# Altium schematic symbol library Connector.SchLib: 164 symbols (part 1 of 2)
Pins are listed as number, name and electrical type; pins without a type are passive.

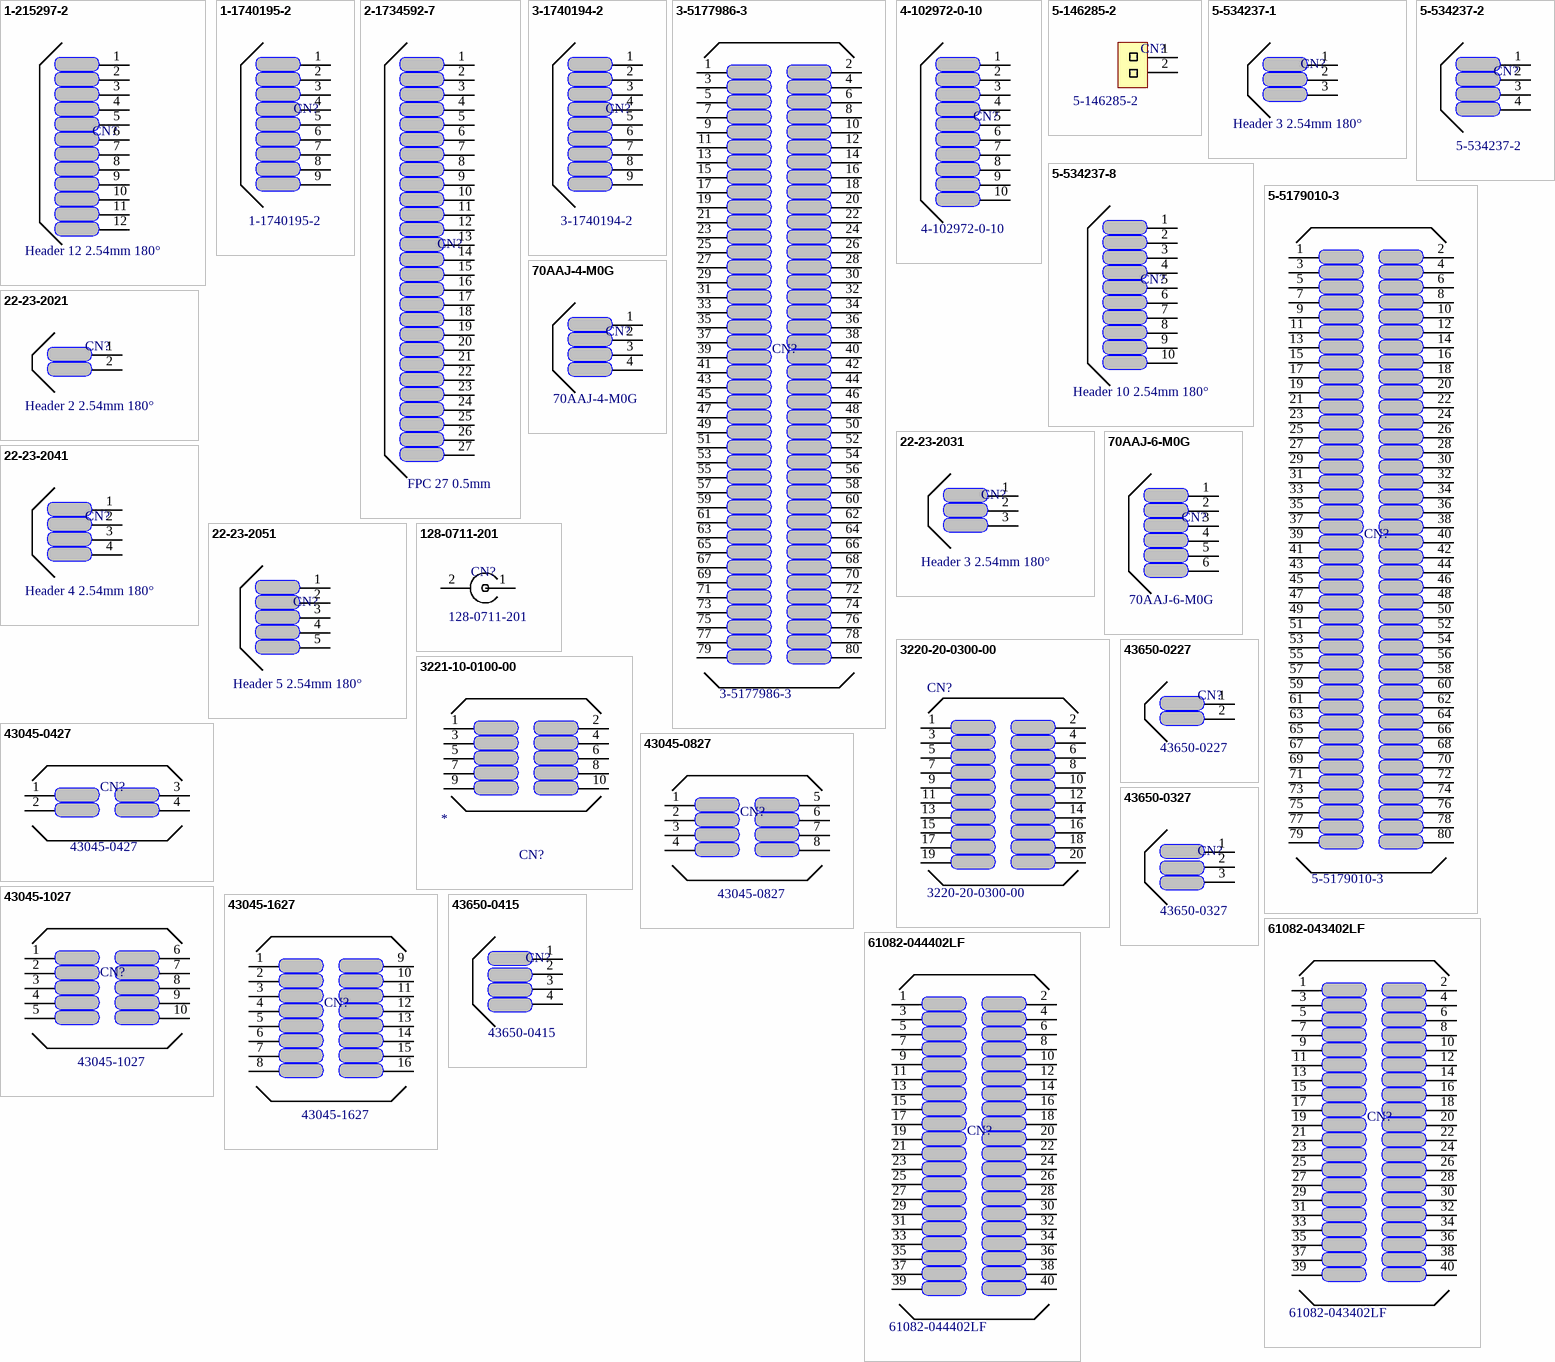
[diagram p0: symbols 1-215297-2 to 61082-044402LF]

## 1-215297-2
designator CN?  value Header 12 2.54mm 180°  (hidden comment: 1-215297-2)
CONN RCPT 12POS .100 VERT T/H; Manufacturer: TE Connectivity; N of Positions: 12; Pitch: 2.54mm; Mount Type: PTH; Supplier 1: Farnell; Supplier 2: Newark; Supplier 3: Digi-Key; Supplier 4: Mouser; Supplier 5: Arrow; Supplier Part Number 1: 3419137; Supplier Part Number 2: 98K4864; Supplier Part Number 3: 1-215297-2-ND; Supplier Part Number 4: 571-1-215297-2; Supplier Part Number 5: 4802830
footprint HEADER 12 2.54mm 180 GRAUS
pins: 1, 2, 3, 4, 5, 6, 7, 8, 9, 10, 11, 12

## 1-1740195-2
designator CN?
CONN DSUB PLUG 9POS SMD R/A SLDR; Manufacturer: TE Connectivity; N of Positions: 9; Pitch: -; Mount Type: SMD; Supplier 1: Newark; Supplier Part Number 1: 16R9549; Supplier 2: Digi-Key; Supplier Part Number 2: A109023CT-ND; Supplier 3: Avnet; Supplier Part Number 3: 1-1740195-2; Value: 1-1740195-2
footprint DB9 HOR SMD MALE 1-1740195-2
pins: 1, 2, 3, 4, 5, 6, 7, 8, 9

## 2-1734592-7
designator CN?  value FPC 27 0.5mm  (hidden comment: 2-1734592-7)
CONN FPC 27POS .5MM RT ANG SMD; Manufacturer: TE Connectivity; N of Positions: 27; Pitch: 0.5mm; Mount Type: SMD; Supplier 1: Digi-Key; Supplier 2: Mouser; Supplier 3: Arrow; Supplier 4: Farnell; Supplier Part Number 1: A101311CT-ND; Supplier Part Number 2: N/A; Supplier Part Number 3: 46426893S9099693N5665; Supplier Part Number 4: 1846466
footprint FPC 27 0.5mm pitch (FPC Connector, 0.5mm pitch)
pins: 1, 2, 3, 4, 5, 6, 7, 8, 9, 10, 11, 12, 13, 14, 15, 16, 17, 18, 19, 20, 21, 22, 23, 24, 25, 26, 27

## 3-1740194-2
designator CN?
CONN DSUB RCPT 9POS SMD R/A SLDR; Manufacturer: TE Connectivity; N of Positions: 9; Pitch: -; Mount Type: SMD; Supplier 1: Digi-Key; Supplier Part Number 1: A108289CT-ND; Supplier 2: Avnet; Supplier Part Number 2: 3-1740194-2; Supplier 3: Newark; Supplier Part Number 3: 98K8569; Supplier 4: Farnell; Supplier Part Number 4: 9980334; Value: 3-1740194-2
footprint DB9 HOR SMD FEMALE 3-1740194-2
pins: 1, 2, 3, 4, 5, 6, 7, 8, 9

## 3-5177986-3
designator CN?
CONN PLUG 80POS .8MM FH 8H GOLD; Manufacturer: TE Connectivity AMP Connectors; N of Positions: 80; Pitch: 0.8mm; Mount Type: SMD; Supplier 1: Digi-Key; Supplier Part Number 1: A99216CT-ND; Supplier 2: Newark; Supplier Part Number 2: 87X2903; Value: 3-5177986-3
footprint B2B PLUG 2X40 0.8mm 180 GRAUS 7.85mm Height
pins: 1, 2, 3, 4, 5, 6, 7, 8, 9, 10, 11, 12, 13, 14, 15, 16, 17, 18, 19, 20, 21, 22, 23, 24, 25, 26, 27, 28, 29, 30, 31, 32, 33, 34, 35, 36, 37, 38, 39, 40, 41, 42, 43, 44, 45, 46, 47, 48, 49, 50, 51, 52, 53, 54, 55, 56, 57, 58, 59, 60, 61, 62, 63, 64, 65, 66, 67, 68, 69, 70, 71, 72, 73, 74, 75, 76, 77, 78, 79, 80

## 4-102972-0-10
designator CN?
CONN HEADR BRKWAY .100 10POS STR; Manufacturer: TE Connectivity; N of Positions: 10; Pitch: 2.54mm; Mount Type: PTH; Supplier 1: Digi-Key; Supplier Part Number 1: A26519-10-ND; Value: 4-102972-0-10
footprint PIN BAR 10 2.54mm 180 GRAUS
pins: 1, 2, 3, 4, 5, 6, 7, 8, 9, 10

## 5-146285-2
designator CN?
02 MODII HDR SRST B/A .100CL; Manufacturer: TE Connectivity; N of Positions: 2; Pitch: 2.54mm; Mount Type: PTH; Supplier 1: Arrow; Supplier 2: Mouser; Supplier 3: Newark; Supplier 4: Digi-Key; Supplier 5: Farnell; Supplier Part Number 1: 38922002; Supplier Part Number 2: 571-5-146285-2; Supplier Part Number 3: 16M3972; Supplier Part Number 4: 5-146285-2-ND; Supplier Part Number 5: 1341684; Value: 5-146285-2
footprint PIN BAR 2 2.54mm 180 GRAUS (HEADER 2 2.54mm 180 GRAUS)
pins: 1, 2

## 5-534237-1
designator CN?  value Header 3 2.54mm 180°  (hidden comment: 5-534237-1)
CONN RECEPT 3POS .100 VERT GOLD; Manufacturer: TE Connectivity; N of Positions: 3; Pitch: 2.54mm; Mount Type: PTH; Supplier 1: Mouser; Supplier 2: Farnell; Supplier 3: Arrow; Supplier 4: Digi-Key; Supplier 5: Newark; Supplier Part Number 1: 571-5-534237-1; Supplier Part Number 2: 1845931; Supplier Part Number 3: 42585752S9932711N5665; Supplier Part Number 4: A32904-ND; Supplier Part Number 5: 39P9514
footprint HEADER 3 2.54mm 180 GRAUS
pins: 1, 2, 3

## 5-534237-2
designator CN?
CONN RECEPT 4POS .100 VERT GOLD; Manufacturer: TE Connectivity; N of Positions: 4; Pitch: 2.54mm; Mount Type: PTH; Supplier 1: Mouser; Supplier 2: Newark; Supplier 3: Farnell; Supplier 4: Digi-Key; Supplier Part Number 1: 571-5-534237-2; Supplier Part Number 2: 40P9556; Supplier Part Number 3: 1668342; Supplier Part Number 4: A32905-ND; Value: 5-534237-2
footprint HEADER 4 2.54mm 180 GRAUS
pins: 1, 2, 3, 4

## 5-534237-8
designator CN?  value Header 10 2.54mm 180°  (hidden comment: 5-534237-8)
CONN RECEPT 10POS .100 VERT GOLD; Manufacturer: TE Connectivity; N of Positions: 10; Pitch: 2.54mm; Mount Type: PTH; Supplier 1: Arrow; Supplier 2: Mouser; Supplier 3: Newark; Supplier 4: Farnell; Supplier 5: Digi-Key; Supplier Part Number 1: 42550433S7936075N5665; Supplier Part Number 2: 571-5-534237-8; Supplier Part Number 3: 52K3746; Supplier Part Number 4: 1815119; Supplier Part Number 5: A32910-ND
footprint HEADER 10 2.54mm 180 GRAUS
pins: 1, 2, 3, 4, 5, 6, 7, 8, 9, 10

## 5-5179010-3
designator CN?
CONN RCPT 80POS DL .8MM FH GOLD; Manufacturer: TE Connectivity AMP Connectors; N of Positions: 80; Pitch: 0.8mm; Mount Type: SMD; Supplier 1: Mouser; Supplier Part Number 1: 571-5-5179010-3; Supplier 2: Newark; Supplier Part Number 2: 93K4014; Supplier 3: Farnell; Supplier Part Number 3: 1098358; Supplier 4: Digikey; Supplier Part Number 4: A115416-ND; Value: 5-5179010-3
footprint B2B REC 2X40 0.8mm 180 GRAUS
pins: 1, 2, 3, 4, 5, 6, 7, 8, 9, 10, 11, 12, 13, 14, 15, 16, 17, 18, 19, 20, 21, 22, 23, 24, 25, 26, 27, 28, 29, 30, 31, 32, 33, 34, 35, 36, 37, 38, 39, 40, 41, 42, 43, 44, 45, 46, 47, 48, 49, 50, 51, 52, 53, 54, 55, 56, 57, 58, 59, 60, 61, 62, 63, 64, 65, 66, 67, 68, 69, 70, 71, 72, 73, 74, 75, 76, 77, 78, 79, 80

## 22-23-2021
designator CN?  value Header 2 2.54mm 180°  (hidden comment: 22-23-2021)
CONN HEADER 2POS .100 VERT TIN; Manufacturer: Molex Inc; N of Positions: 2; Pitch: 2.54mm; Mount Type: PTH; Supplier 1: Digi-Key; Supplier 2: Newark; Supplier 3: Allied; Supplier 4: Mouser; Supplier 5: Farnell; Supplier Part Number 1: WM4200-ND; Supplier Part Number 2: 25C3832; Supplier Part Number 3: 70190606; Supplier Part Number 4: 538-22-23-2021; Supplier Part Number 5: 1462926
footprint HEADER 2M 2.54mm 180 GRAUS (HEADER 3M 2.54mm 180 GRAUS)
pins: 1, 2

## 22-23-2031
designator CN?  value Header 3 2.54mm 180°  (hidden comment: 22-23-2031)
CONN HEADER 3POS .100 VERT TIN; Manufacturer: Molex Inc; N of Positions: 3; Pitch: 2.54mm; Mount Type: PTH; Supplier 1: Newark; Supplier 2: Allied; Supplier 3: Farnell; Supplier 4: Mouser; Supplier 5: Digi-Key; Supplier Part Number 1: 30C0862; Supplier Part Number 2: 70190741; Supplier Part Number 3: 1462950; Supplier Part Number 4: 538-22-23-2031; Supplier Part Number 5: WM4201-ND
footprint HEADER 3M 2.54mm 180 GRAUS
pins: 1, 2, 3

## 22-23-2041
designator CN?  value Header 4 2.54mm 180°  (hidden comment: 22-23-2041)
CONN HEADER 4POS .100 VERT TIN; Manufacturer: Molex Inc; N of Positions: 4; Pitch: 2.54mm; Mount Type: PTH; Supplier 1: Allied; Supplier 2: Newark; Supplier 3: Farnell; Supplier 4: Mouser; Supplier 5: Arrow; Supplier 6: Digi-Key; Supplier Part Number 1: 70190610; Supplier Part Number 2: 38C0355; Supplier Part Number 3: 1462920; Supplier Part Number 4: 538-22-23-2041; Supplier Part Number 5: 4703601S3511738N3303; Supplier Part Number 6: WM4202-ND
footprint HEADER 4M 2.54mm 180 GRAUS
pins: 1, 2, 3, 4

## 22-23-2051
designator CN?  value Header 5 2.54mm 180°  (hidden comment: 22-23-2051)
CONN HEADER 5POS .100 VERT TIN; Manufacturer: Molex Inc; N of Positions: 5; Pitch: 2.54mm; Mount Type: PTH; Supplier 1: Digi-Key; Supplier 2: Mouser; Supplier 3: Farnell; Supplier 4: Arrow; Supplier 5: Newark; Supplier 6: Allied; Supplier Part Number 1: WM4203-ND; Supplier Part Number 2: 538-22-23-2051; Supplier Part Number 3: 1462952; Supplier Part Number 4: 4703603S3494266N3303; Supplier Part Number 5: 38C9178; Supplier Part Number 6: 70190811
footprint HEADER 5M 2.54mm 180 GRAUS
pins: 1, 2, 3, 4, 5

## 70AAJ-4-M0G
designator CN?
MODULAR CONTACT SMD MALE; Manufacturer: Bourns Inc.; N of Positions: 4; Pitch: 2.54; Mount Type: SMD; Supplier 1: Newark; Supplier Part Number 1: 71R7445; Supplier 2: Arrow; Supplier Part Number 2: pqLxr7LUTTD1JL_M0_sYlAUJe9IbDiJ4hIX_ec-TGbU; Supplier 3: Farnell; Supplier Part Number 3: 2408826; Supplier 4: Digi-Key; Supplier Part Number 4: 70AAJ-4-M0GCT-ND; Value: 70AAJ-4-M0G
footprint 70AAJ-4-M
pins: 1, 2, 3, 4

## 70AAJ-6-M0G
designator CN?
MODULAR CONTACT SMD MALE; Manufacturer: Bourns Inc.; N of Positions: 6; Pitch: 2.54; Mount Type: SMD; Supplier 1: Arrow; Supplier Part Number 1: 7lHY8Z9iJ7ehCG-uFxTz8bl57Oub8073nNKU8Lg2F1c; Supplier 2: Digi-Key; Supplier Part Number 2: 70AAJ-6-M0GCT-ND; Supplier 3: Newark; Supplier Part Number 3: 71R7446; Value: 70AAJ-6-M0G
footprint 70AAJ-6-M
pins: 1, 2, 3, 4, 5, 6

## 128-0711-201
designator CN?
CONN UMC RCPT STR 50 OHM SMD; Manufacturer: Cinch Connectivity Solutions Johnson; N of Positions: 2; Pitch: *; Mount Type: SMD; Supplier 1: Digi-Key; Supplier Part Number 1: J983CT-ND; Supplier 2: Mouser; Supplier Part Number 2: 530-1280711201; Value: 128-0711-201
footprint 128-0711-201
pins: 1, 2

## 3220-20-0300-00
designator CN?
IDC BOX HEADER 0.050 20 POS; Manufacturer: CNC Tech; N of Positions: 20; Pitch: 1.27mm; Mount Type: SMD; Supplier 1: Digi-Key; Supplier Part Number 1: 1175-1637-ND; Supplier 2: Arrow; Supplier Part Number 2: kTtEpER2GCfCe8FcdXTspxNgolJUF4w_OkpjOs6V94UZVywxIBNyoAQstvnyfZZ0; Value: 3220-20-0300-00
footprint HEADER SMD 2X10 1.27mm 180 GRAUS
pins: 1, 2, 3, 4, 5, 6, 7, 8, 9, 10, 11, 12, 13, 14, 15, 16, 17, 18, 19, 20

## 3221-10-0100-00
designator CN?  (value not drawn)
IDC BOX HEADER .050" 10POS; Manufacturer: CNC Tech; N of Positions: 10; Pitch: 0.050" (1.27mm); Mount Type: Through Hole; Supplier 1: Arrow; Supplier Part Number 1: r9dZxI9WpjALPPuqQ3jqcYKs4WIkuLJF9trZ6j1UYqsZVywxIBNyoAQstvnyfZZ0; Supplier 2: Digi-Key; Supplier Part Number 2: 1175-1733-ND; Value: *
footprint HEADER 2X5 1.27mm 180 GRAUS
pins: 1, 2, 3, 4, 5, 6, 7, 8, 9, 10

## 43045-0427
designator CN?
MICROFIT 3.0 VERT TH HDR DR TIN; Manufacturer: Molex; N of Positions: 4; Pitch: 3mm; Mount Type: PTH; Supplier 1: Newark; Supplier 2: Mouser; Supplier 3: Digi-Key; Supplier Part Number 1: 92M1166; Supplier Part Number 2: 538-43045-0427; Supplier Part Number 3: 0430450427-ND; Value: 43045-0427
footprint MICROFIT 2x2M 3.0MM 180GRAUS
pins: 1, 2, 3, 4

## 43045-0827
designator CN?
MICROFIT 3.0 VERT TH HDR DR TIN; Manufacturer: Molex; N of Positions: 8; Pitch: 3mm; Mount Type: PTH; Supplier 1: Mouser; Supplier 2: Digi-Key; Supplier 3: Newark; Supplier 4: Farnell; Supplier Part Number 1: 538-43045-0827; Supplier Part Number 2: 0430450827-ND; Supplier Part Number 3: 34R5759; Supplier Part Number 4: 1756712; Value: 43045-0827
footprint MICROFIT 2x4M 3.0MM 180GRAUS
pins: 1, 2, 3, 4, 5, 6, 7, 8

## 43045-1027
designator CN?
CONN HEADER 10POS VERT TIN; Manufacturer: Molex; N of Positions: 10; Pitch: 3mm; Mount Type: PTH; Supplier 1: Newark; Supplier 2: Digi-Key; Supplier 3: Mouser; Supplier Part Number 1: 92M1209; Supplier Part Number 2: WM7488-ND; Supplier Part Number 3: 538-43045-1027; Value: 43045-1027
footprint MICROFIT 2x5M 3.0MM 180GRAUS
pins: 1, 2, 3, 4, 5, 6, 7, 8, 9, 10

## 43045-1627
designator CN?
MICROFIT 3.0 VERT TH HDR DR TIN; Manufacturer: Molex; N of Positions: 16; Pitch: 3mm; Mount Type: PTH; Supplier 1: Newark; Supplier 2: Mouser; Supplier 3: Digi-Key; Supplier Part Number 1: 92M1268; Supplier Part Number 2: 538-43045-1627; Supplier Part Number 3: 0430451627-ND; Supplier 4: Digi-Key; Supplier Part Number 4: WM10708-ND; Value: 43045-1627
footprint MICROFIT 2x8M 3.0MM 180GRAUS
pins: 1, 2, 3, 4, 5, 6, 7, 8, 9, 10, 11, 12, 13, 14, 15, 16

## 43650-0227
designator CN?
MICROFIT 3.0 SR VERT TH PEG TIN; Manufacturer: Molex; N of Positions: 2; Pitch: 3mm; Mount Type: PTH; Supplier 1: Newark; Supplier 2: Mouser; Supplier 3: Digi-Key; Supplier Part Number 1: 92M1793; Supplier Part Number 2: 538-43650-0227; Supplier Part Number 3: 0436500227-ND; Value: 43650-0227
footprint MICROFIT 2M 3.0MM 180GRAUS
pins: 1, 2

## 43650-0327
designator CN?
CONN HEADER 3POS VERT TIN; Manufacturer: Molex; N of Positions: 3; Pitch: 3mm; Mount Type: PTH; Supplier 1: Newark; Supplier 2: Mouser; Supplier 3: Digi-Key; Supplier Part Number 1: 92M1809; Supplier Part Number 2: 538-43650-0327; Supplier Part Number 3: WM7500-ND; Value: 43650-0327
footprint MICROFIT 3M 3.0MM 180GRAUS
pins: 1, 2, 3

## 43650-0415
designator CN?
CONN HEADER 4POS 3MM VERT TIN; Manufacturer: Molex; N of Positions: 4; Pitch: 3mm; Mount Type: PTH; Supplier 1: Newark; Supplier 2: Mouser; Supplier 3: Farnell; Supplier 4: Allied; Supplier 5: Digi-Key; Supplier Part Number 1: 95C1789; Supplier Part Number 2: 538-43650-0415; Supplier Part Number 3: 1462899; Supplier Part Number 4: 70266905; Supplier Part Number 5: WM1919-ND; Value: 43650-0415
footprint MICROFIT 4M 3.0MM 180GRAUS
pins: 1, 2, 3, 4

## 61082-043402LF
designator CN?
CONN RECEPT 40POS .8MM DUAL SMD; Manufacturer: Amphenol FCI; N of Positions: 40; Pitch: 0.8mm; Mount Type: SMD; Supplier 1: Newark; Supplier Part Number 1: 06M1456; Supplier 2: Avnet; Supplier Part Number 2: 61082-043402LF/BKN; Supplier 3: Digi-Key; Supplier Part Number 3: 609-1617-1-ND; Supplier 4: Mouser; Supplier Part Number 4: 649-61082-043402LF; Value: 61082-043402LF
footprint B2B REC 2X20 0.8mm 180 GRAUS 15.7mm Height
pins: 1, 2, 3, 4, 5, 6, 7, 8, 9, 10, 11, 12, 13, 14, 15, 16, 17, 18, 19, 20, 21, 22, 23, 24, 25, 26, 27, 28, 29, 30, 31, 32, 33, 34, 35, 36, 37, 38, 39, 40

## 61082-044402LF
designator CN?
CONN RECEPT 40POS .8MM DUAL SMD; Manufacturer: Amphenol FCI; N of Positions: 40; Pitch: 0.8mm; Mount Type: SMD; Supplier 1: Digi-Key; Supplier Part Number 1: 61082-044402LF-ND; Supplier 2: Avnet; Supplier Part Number 2: 61082-044402LF; Supplier 3: Newark; Supplier Part Number 3: 30Y7848; Supplier 4: Mouser; Supplier Part Number 4: 649-61082-044402LF; Value: 61082-044402LF
footprint B2B REC 2X20 0.8mm 180 GRAUS 15.7mm Height
pins: 1, 2, 3, 4, 5, 6, 7, 8, 9, 10, 11, 12, 13, 14, 15, 16, 17, 18, 19, 20, 21, 22, 23, 24, 25, 26, 27, 28, 29, 30, 31, 32, 33, 34, 35, 36, 37, 38, 39, 40

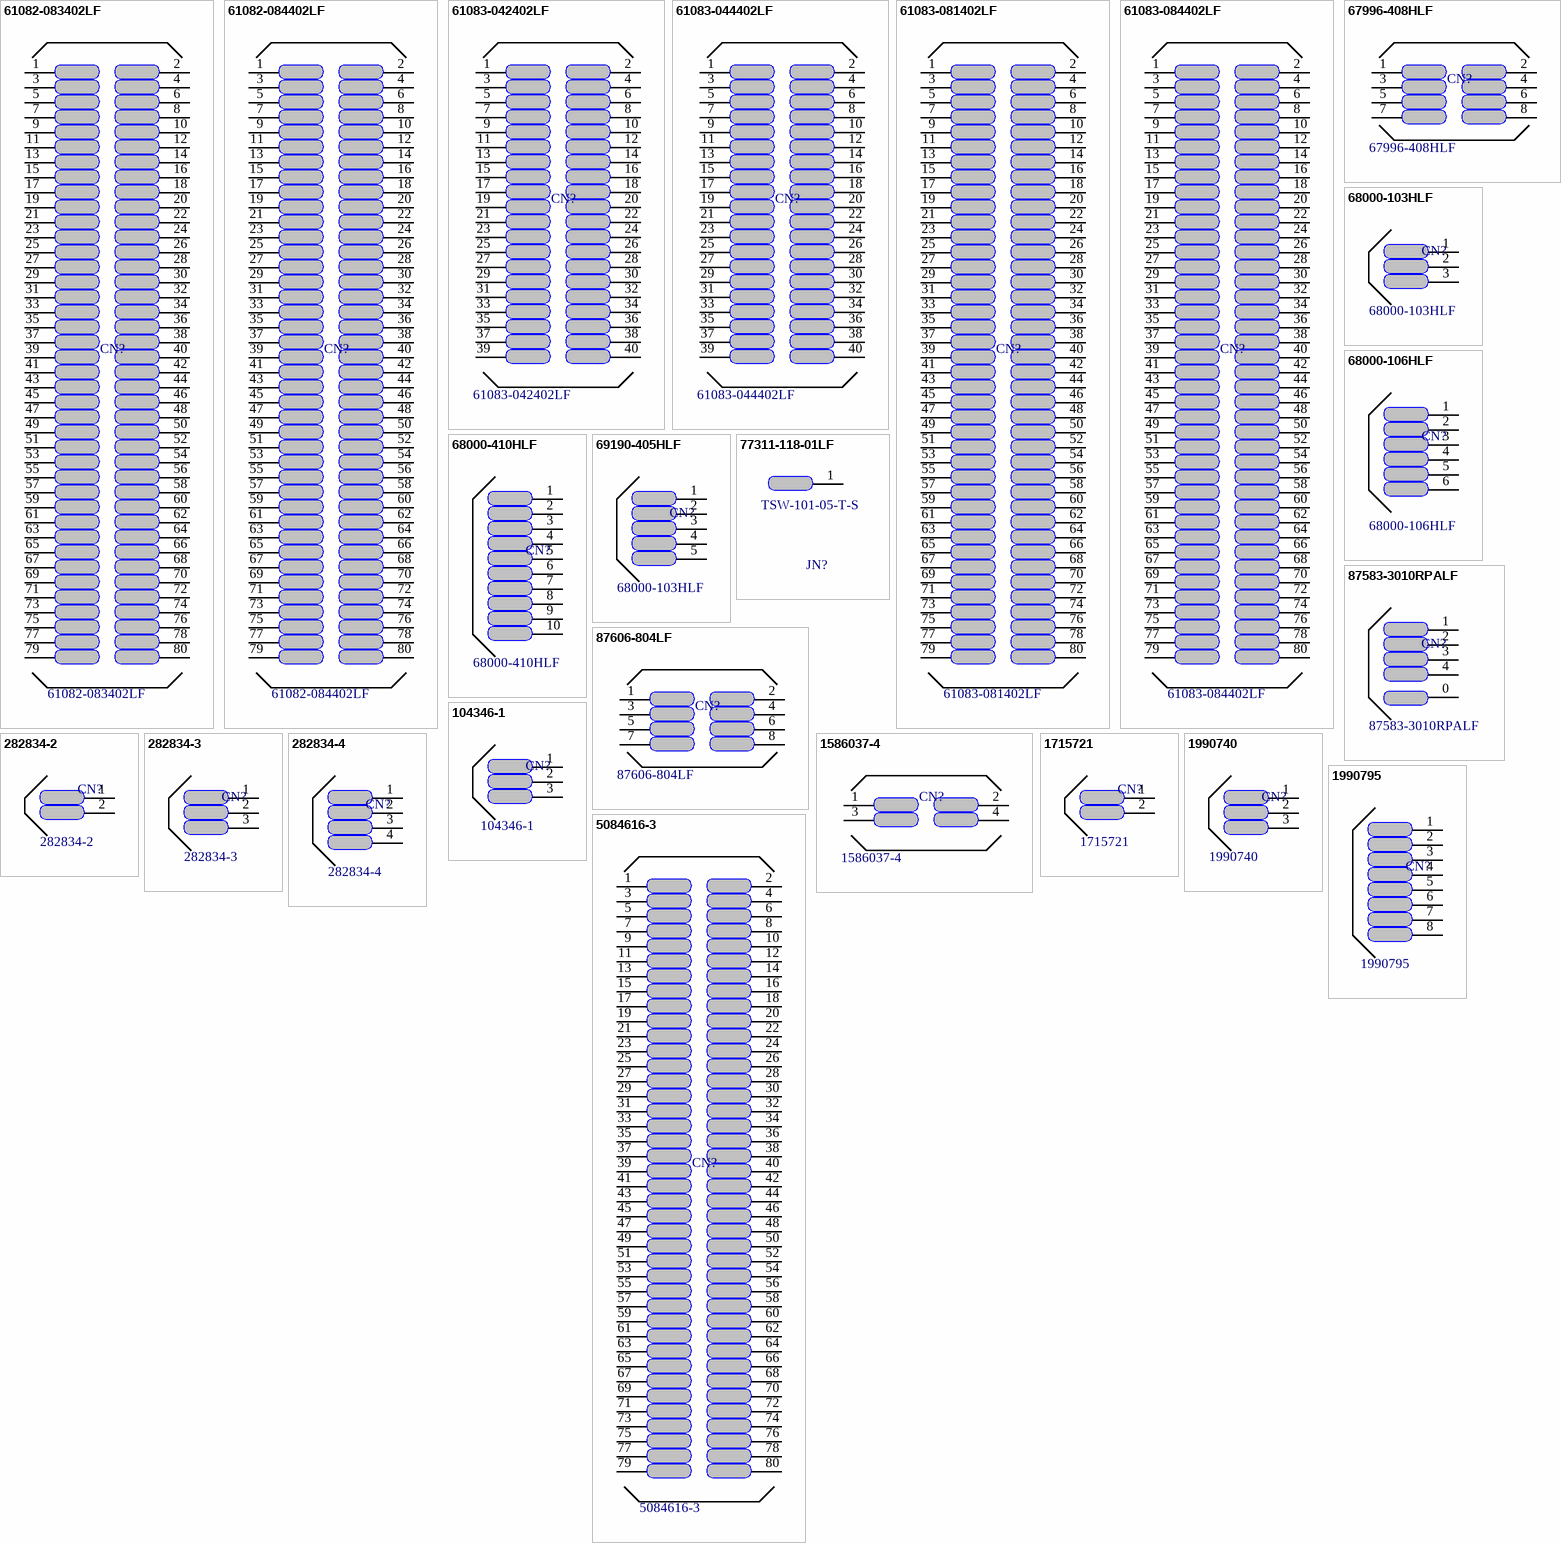
[diagram p1: symbols 61082-083402LF to 5084616-3]

## 61082-083402LF
designator CN?
CONN RECEPT 80POS .8MM DUAL SMD; Manufacturer: Amphenol FCI; N of Positions: 80; Pitch: 0.8mm; Mount Type: SMD; Supplier 1: Newark; Supplier Part Number 1: 57K8346; Supplier 2: Arrow; Supplier Part Number 2: DobhqSPmcuMmsc-K9iF11GSRc253642WMUMCkGLyd9E; Supplier 3: Digi-Key; Supplier Part Number 3: 609-1629-1-ND; Supplier 4: Avnet; Supplier Part Number 4: 61082-083402LF/BKN; Value: 61082-083402LF
footprint B2B REC 2X40 0.8mm 180 GRAUS 11.7mm Height
pins: 1, 2, 3, 4, 5, 6, 7, 8, 9, 10, 11, 12, 13, 14, 15, 16, 17, 18, 19, 20, 21, 22, 23, 24, 25, 26, 27, 28, 29, 30, 31, 32, 33, 34, 35, 36, 37, 38, 39, 40, 41, 42, 43, 44, 45, 46, 47, 48, 49, 50, 51, 52, 53, 54, 55, 56, 57, 58, 59, 60, 61, 62, 63, 64, 65, 66, 67, 68, 69, 70, 71, 72, 73, 74, 75, 76, 77, 78, 79, 80

## 61082-084402LF
designator CN?
CONN RECEPT 80POS .8MM DUAL SMD; Manufacturer: Amphenol FCI; N of Positions: 80; Pitch: 0.8mm; Mount Type: SMD; Supplier 1: Newark; Supplier Part Number 1: 30Y7861; Value: 61082-084402LF
footprint B2B REC 2X40 0.8mm 180 GRAUS 15.7mm Height
pins: 1, 2, 3, 4, 5, 6, 7, 8, 9, 10, 11, 12, 13, 14, 15, 16, 17, 18, 19, 20, 21, 22, 23, 24, 25, 26, 27, 28, 29, 30, 31, 32, 33, 34, 35, 36, 37, 38, 39, 40, 41, 42, 43, 44, 45, 46, 47, 48, 49, 50, 51, 52, 53, 54, 55, 56, 57, 58, 59, 60, 61, 62, 63, 64, 65, 66, 67, 68, 69, 70, 71, 72, 73, 74, 75, 76, 77, 78, 79, 80

## 61083-042402LF
designator CN?
CONN HEADER 40POS .8MM DUAL SMD; Manufacturer: Amphenol FCI; N of Positions: 40; Pitch: 0.8mm; Mount Type: SMD; Supplier 1: Newark; Supplier Part Number 1: 43K4463; Supplier 2: Digi-Key; Supplier Part Number 2: 609-1669-1-ND; Supplier 3: Avnet; Supplier Part Number 3: 61083-042402LF; Supplier 4: Farnell; Supplier Part Number 4: 1691849; Value: 61083-042402LF
footprint B2B PLUG 2X20 0.8mm 180 GRAUS 5.7mm height
pins: 1, 2, 3, 4, 5, 6, 7, 8, 9, 10, 11, 12, 13, 14, 15, 16, 17, 18, 19, 20, 21, 22, 23, 24, 25, 26, 27, 28, 29, 30, 31, 32, 33, 34, 35, 36, 37, 38, 39, 40

## 61083-044402LF
designator CN?
CONN HEADER 40POS .8MM DUAL SMD; Manufacturer: Amphenol FCI; N of Positions: 40; Pitch: 0.8mm; Mount Type: SMD; Supplier 1: Avnet; Supplier Part Number 1: 61083-044402LF/BKN; Supplier 2: Digi-Key; Supplier Part Number 2: 609-1673-1-ND; Supplier 3: Newark; Supplier Part Number 3: 06M1508; Value: 61083-044402LF
footprint B2B PLUG 2X20 0.8mm 180 GRAUS 7.7mm height
pins: 1, 2, 3, 4, 5, 6, 7, 8, 9, 10, 11, 12, 13, 14, 15, 16, 17, 18, 19, 20, 21, 22, 23, 24, 25, 26, 27, 28, 29, 30, 31, 32, 33, 34, 35, 36, 37, 38, 39, 40

## 61083-081402LF
designator CN?
CONN HEADER 80POS .8MM DUAL SMD; Manufacturer: Amphenol FCI; N of Positions: 80; Pitch: 0.8mm; Mount Type: SMD; Supplier 1: Newark; Supplier Part Number 1: 62K6467; Supplier 2: Avnet; Supplier Part Number 2: 61083-081402LF; Supplier 3: Digi-Key; Supplier Part Number 3: 609-1683-1-ND; Supplier 4: Arrow; Supplier Part Number 4: mdwd3wwZ61NcXQtw1wmz58-4gjO5Gn-JMoZbvIO7EUA; Value: 61083-081402LF
footprint B2B PLUG 2X40 0.8mm 180 GRAUS 4.7mm Height
pins: 1, 2, 3, 4, 5, 6, 7, 8, 9, 10, 11, 12, 13, 14, 15, 16, 17, 18, 19, 20, 21, 22, 23, 24, 25, 26, 27, 28, 29, 30, 31, 32, 33, 34, 35, 36, 37, 38, 39, 40, 41, 42, 43, 44, 45, 46, 47, 48, 49, 50, 51, 52, 53, 54, 55, 56, 57, 58, 59, 60, 61, 62, 63, 64, 65, 66, 67, 68, 69, 70, 71, 72, 73, 74, 75, 76, 77, 78, 79, 80

## 61083-084402LF
designator CN?
CONN HEADER 80POS .8MM DUAL SMD; Manufacturer: Amphenol FCI; N of Positions: 80; Pitch: 0.8mm; Mount Type: SMD; Supplier 1: Avnet; Supplier Part Number 1: 61083-084402LF; Supplier 2: Digi-Key; Supplier Part Number 2: 609-1689-1-ND; Supplier 3: Arrow; Supplier Part Number 3: chvW_dXUSVpgoEYyIabXsPiZsxJ53idAL8c17zpcsYI; Supplier 4: Farnell; Supplier Part Number 4: 2112397; Supplier 5: Newark; Supplier Part Number 5: 08X5189; Value: 61083-084402LF
footprint B2B PLUG 2X40 0.8mm 180 GRAUS 7.7mm Height
pins: 1, 2, 3, 4, 5, 6, 7, 8, 9, 10, 11, 12, 13, 14, 15, 16, 17, 18, 19, 20, 21, 22, 23, 24, 25, 26, 27, 28, 29, 30, 31, 32, 33, 34, 35, 36, 37, 38, 39, 40, 41, 42, 43, 44, 45, 46, 47, 48, 49, 50, 51, 52, 53, 54, 55, 56, 57, 58, 59, 60, 61, 62, 63, 64, 65, 66, 67, 68, 69, 70, 71, 72, 73, 74, 75, 76, 77, 78, 79, 80

## 67996-408HLF
designator CN?
CONN HEADER 8POS .100 STR TIN; Manufacturer: FCI; N of Positions: 8; Pitch: 2.54mm; Mount Type: PTH; Supplier 1: Mouser; Supplier 2: Newark; Supplier 3: Farnell; Supplier 4: Digi-Key; Supplier Part Number 1: 649-67996-408HLF; Supplier Part Number 2: 84K6416; Supplier Part Number 3: 1278358; Supplier Part Number 4: 609-3391-ND; Value: 67996-408HLF
footprint PIN BAR 2X4 2.54mm 180 GRAUS 11.5mm length
pins: 1, 2, 3, 4, 5, 6, 7, 8

## 68000-103HLF
designator CN?
BERGSTIK II .100" SR STRAIGHT; Manufacturer: FCI; N of Positions: 3; Pitch: 2.54mm; Mount Type: PTH; Supplier 1: Newark; Supplier 2: Farnell; Supplier 3: Allied; Supplier 4: Digi-Key; Supplier 5: Mouser; Supplier Part Number 1: 88K1775; Supplier Part Number 2: 1824560; Supplier Part Number 3: 70236888; Supplier Part Number 4: 609-3461-ND; Supplier Part Number 5: 649-68000-103H; Value: 68000-103HLF
footprint PIN BAR 3 2.54mm 180 GRAUS (HEADER 3 2.54mm 180 GRAUS)
pins: 1, 2, 3

## 68000-106HLF
designator CN?
CONN HEADER 6POS .100 STR 30AU; Manufacturer: FCI; N of Positions: 6; Pitch: 2.54mm; Mount Type: PTH; Supplier 1: Newark; Supplier 2: Farnell; Supplier 3: Digi-Key; Supplier 4: Mouser; Supplier Part Number 1: 12N0593; Supplier Part Number 2: 1824355; Supplier Part Number 3: 609-3249-ND; Supplier Part Number 4: 649-68000-106H; Value: 68000-106HLF
footprint PIN BAR 6 2.54mm 180 GRAUS (HEADER 6 2.54mm 180 GRAUS)
pins: 1, 2, 3, 4, 5, 6

## 68000-410HLF
designator CN?
CONN HEADER 10POS .100 STR TIN; Manufacturer: FCI; N of Positions: 10; Pitch: 2.54mm; Mount Type: PTH; Supplier 1: Farnell; Supplier Part Number 1: 1924668; Supplier 2: Newark; Supplier Part Number 2: 79K4690; Supplier 3: Mouser; Supplier Part Number 3: 649-68000-410HLF; Supplier 4: Digi-Key; Supplier Part Number 4: 609-3265-ND; Value: 68000-410HLF
footprint PIN BAR 10 2.54mm 180 GRAUS
pins: 1, 2, 3, 4, 5, 6, 7, 8, 9, 10

## 69190-405HLF
designator CN?  value 68000-103HLF  (hidden comment: 69190-405HLF)
BERGSTIK II SNGL ST; Manufacturer: FCI; N of Positions: 3; Pitch: 2.54mm; Mount Type: PTH; Supplier 1: Digi-Key; Supplier Part Number 1: 609-4726-ND
footprint PIN BAR 5 2.54mm 180 GRAUS (HEADER 5 2.54mm 180 GRAUS)
pins: 1, 2, 3, 4, 5

## 77311-118-01LF
designator JN?  value TSW-101-05-T-S  (hidden comment: 77311-118-01LF)
HEADER BERGSTIK; Manufacturer: Samtec Inc; N of Positions: 1; Pitch: 2.54mm; Mount Type: PTH; Supplier 1: Arrow; Supplier Part Number 1: 8JYtbyLTNBfNwownT033Um8OX-YYJyPCDgwj8uW9lyM; Supplier 2: Digi-Key; Supplier Part Number 2: 77311-118-01LF-ND
footprint PIN BAR 1 2.54mm 180 GRAUS (HEADER 1 2.54mm 180 GRAUS)
pins: 1

## 87583-3010RPALF
designator CN?
USB - A USB 2.0 Receptacle Connector 4 Position Surface Mount, Right Angle, Horizontal; Manufacturer: Amphenol FCI; N of Positions: 5; Pitch: 0.65mm; Mount Type: PTH; Value: 87583-3010RPALF
pins: 0, 1, 2, 3, 4

## 87606-804LF
designator CN?
CONN RCPT 8POS .100" DBL PCB; Manufacturer: Amphenol FCI; N of Positions: 8; Pitch: 2.54mm; Mount Type: PTH; Supplier 1: Mouser; Supplier Part Number 1: 649-87606-804LF; Supplier 2: Digi-Key; Supplier Part Number 2: 609-5145-ND; Value: 87606-804LF
footprint HEADER 2X4 2.54mm 180 GRAUS 8.5mm length
pins: 1, 2, 3, 4, 5, 6, 7, 8

## 104346-1
designator CN?
CONN HDR BRKWAY 3POS VERT TIN; Manufacturer: TE Connectivity; N of Positions: 3; Pitch: 2.54mm; Mount Type: PTH; Supplier 1: Digi-Key; Supplier Part Number 1: A111696-ND; Supplier 2: Mouser; Supplier Part Number 2: 571-104346-1; Value: 104346-1
footprint PIN BAR 3 2.54mm 180 GRAUS (HEADER 3 2.54mm 180 GRAUS)
pins: 1, 2, 3

## 282834-2
designator CN?
TERM BLOCK 2POS SIDE ENT 2.54MM; Manufacturer: TE Connectivity AMP Connectors; N of Positions: 2; Pitch: 2.54mm; Mount Type: PTH; Supplier 1: Digi-Key; Supplier Part Number 1: A98333-ND; Supplier 2: Newark; Supplier Part Number 2: 12H8386; Supplier 3: Farnell; Supplier Part Number 3: 3041359; Value: 282834-2
footprint TBLOCK 2x2.54
pins: 1, 2

## 282834-3
designator CN?
TERM BLOCK 3POS SIDE ENT 2.54MM; Manufacturer: TE Connectivity AMP Connectors; N of Positions: 3; Pitch: 2.54mm; Mount Type: PTH; Supplier 1: Digi-Key; Supplier Part Number 1: A98334-ND; Supplier 2: Newark; Supplier Part Number 2: 12H8387; Supplier 3: Mouser; Supplier Part Number 3: 571-2828343; Supplier 4: Farnell; Supplier Part Number 4: 2396254; Value: 282834-3
footprint TBLOCK 3x2.54
pins: 1, 2, 3

## 282834-4
designator CN?
TERM BLOCK 4POS SIDE ENT 2.54MM; Manufacturer: TE Connectivity AMP Connectors; N of Positions: 4; Pitch: 2.54mm; Mount Type: PTH; Supplier 1: Newark; Supplier Part Number 1: 12H8388; Supplier 2: Digi-Key; Supplier Part Number 2: A98335-ND; Supplier 3: Mouser; Supplier Part Number 3: 571-282834-4; Supplier 4: Farnell; Supplier Part Number 4: 2396253; Value: 282834-4
footprint TBLOCK 4x2.54
pins: 1, 2, 3, 4

## 1586037-4
designator CN?
CONN HEADER 4POS VERT W/O PEGS; Manufacturer: TE Connectivity AMP Connectors; N of Positions: 4; Pitch: 4.2mm; Mount Type: Through Hole; Supplier 1: Farnell; Supplier Part Number 1: 8115940; Supplier 2: Digi-Key; Supplier Part Number 2: A30603-ND; Supplier 3: Newark; Supplier Part Number 3: 39K1309; Value: 1586037-4
footprint MINIFIT 2x2M 4.2MM 180GRAUS
pins: 1, 2, 3, 4

## 1715721
designator CN?
CONN TERM BLOCK 2POS 5.08MM PCB; Manufacturer: Phoenix Contact; N of Positions: 2; Pitch: 5.08mm; Mount Type: PTH; Supplier 1: Digi-Key; Supplier Part Number 1: 277-1263-ND; Supplier 2: Farnell; Supplier Part Number 2: 3041529; Supplier 3: Mouser; Supplier Part Number 3: 651-1715721; Supplier 4: Newark; Supplier Part Number 4: 14N5627; Value: 1715721
footprint TBLOCK 2x5.08
pins: 1, 2

## 1990740
designator CN?
CONN TERM BLK 3POS 3.5MM GREEN; Manufacturer: Phoenix Contact; N of Positions: 3; Pitch: 3.5mm; Mount Type: SMD; Supplier 1: Digikey; Supplier Part Number 1: 277-9762-ND; Supplier 2: Mouser; Supplier Part Number 2: 651-1990740; Supplier 3: Arrow; Supplier Part Number 3: 1990740; Value: 1990740
footprint PUSH-IN 3pos 3.5mm pitch 90 graus
pins: 1, 2, 3

## 1990795
designator CN?
PC TERM BLOCK 3.5MM 8POS GREEN; Manufacturer: Phoenix Contact; N of Positions: 8; Pitch: 3.5mm; Mount Type: SMD; Supplier 1: Mouser; Supplier Part Number 1: 651-1990795; Supplier 2: Digikey; Supplier Part Number 2: 277-9787-ND; Supplier 3: Arrow; Supplier Part Number 3: 1990795; Value: 1990795
footprint PUSH-IN 8pos 3.5mm pitch 90 graus
pins: 1, 2, 3, 4, 5, 6, 7, 8

## 5084616-3
designator CN?
CONN RCPT 80POS .8MM FH 13H GOLD; Manufacturer: TE Connectivity AMP Connectors; N of Positions: 80; Pitch: 0.8mm; Mount Type: SMD; Supplier 1: Digi-Key; Supplier Part Number 1: A99236CT-ND; Supplier 2: Arrow; Supplier Part Number 2: 8OTdApTkctAPWz4Afdx-4zD2PToeQ25VgLgZZp307uU; Supplier 3: Newark; Supplier Part Number 3: 96Y2307; Value: 5084616-3
footprint B2B REC 2X40 0.8mm 180 GRAUS 11.75mm Height
pins: 1, 2, 3, 4, 5, 6, 7, 8, 9, 10, 11, 12, 13, 14, 15, 16, 17, 18, 19, 20, 21, 22, 23, 24, 25, 26, 27, 28, 29, 30, 31, 32, 33, 34, 35, 36, 37, 38, 39, 40, 41, 42, 43, 44, 45, 46, 47, 48, 49, 50, 51, 52, 53, 54, 55, 56, 57, 58, 59, 60, 61, 62, 63, 64, 65, 66, 67, 68, 69, 70, 71, 72, 73, 74, 75, 76, 77, 78, 79, 80

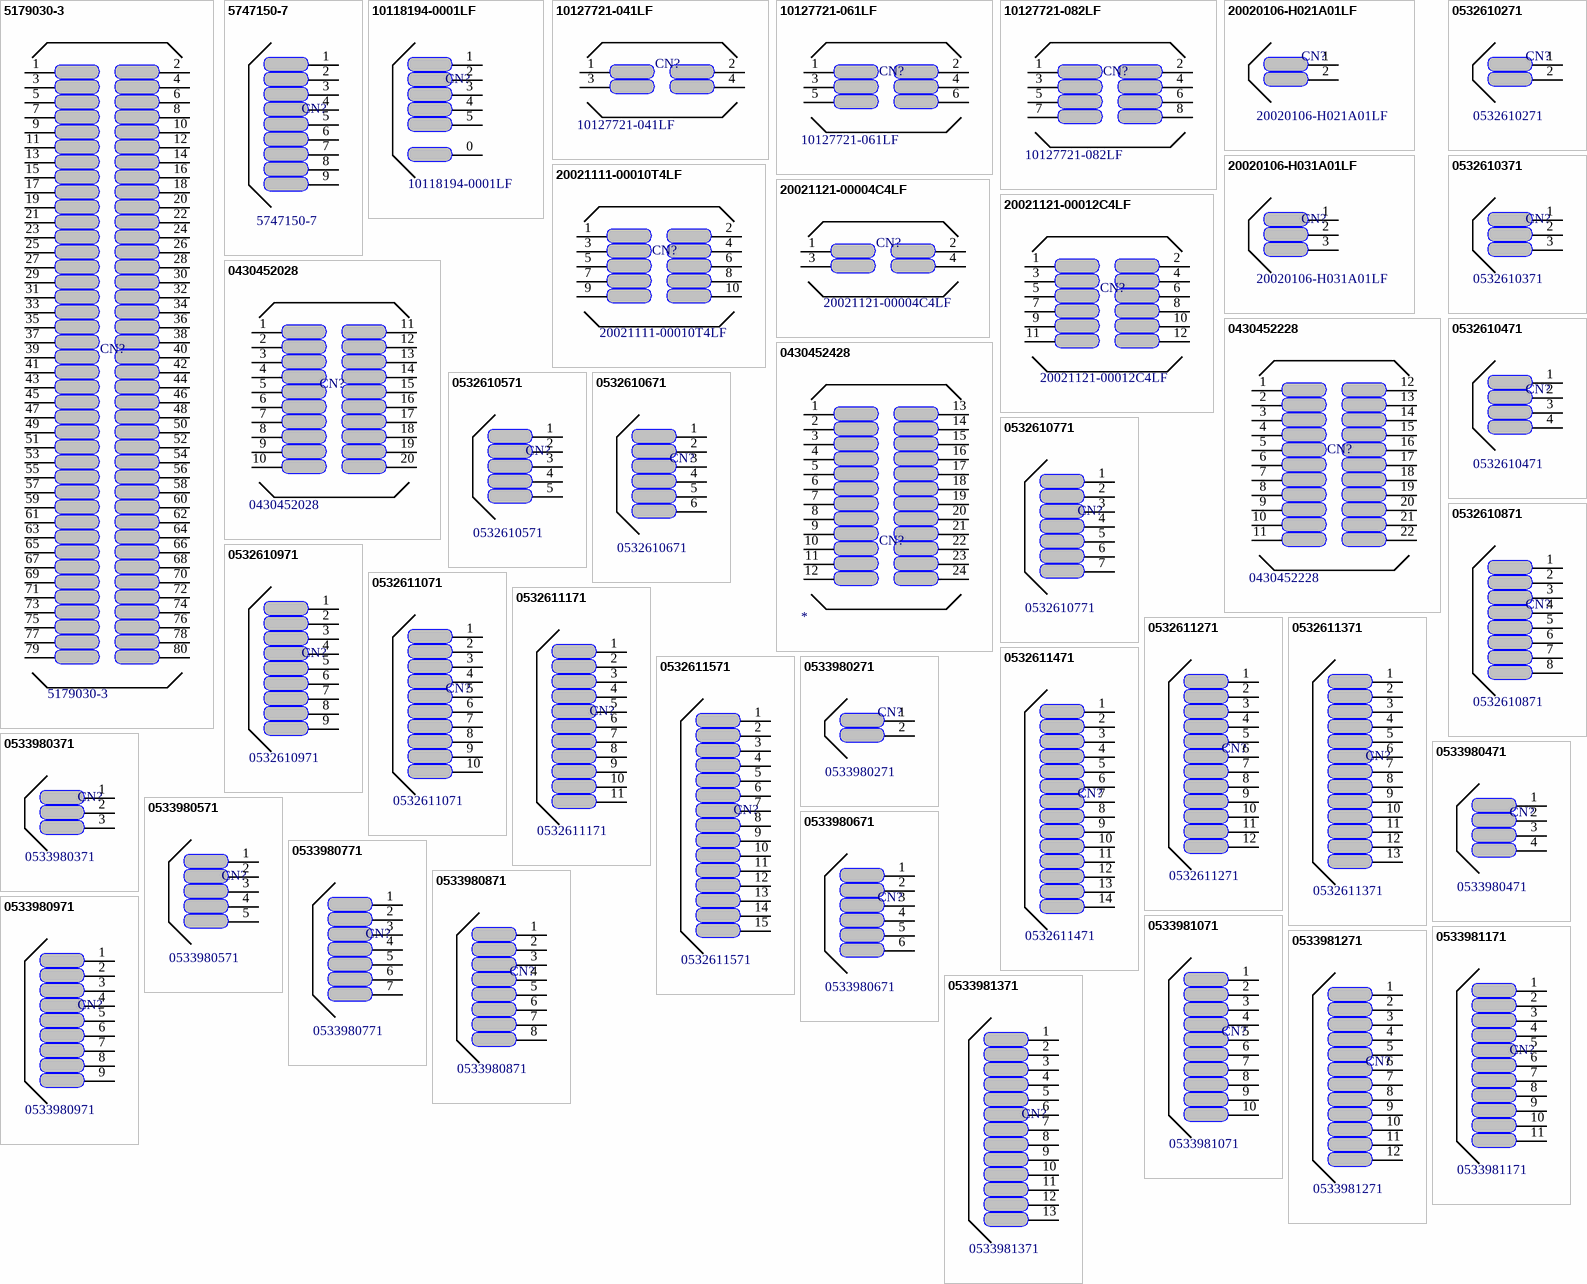
[diagram p2: symbols 5179030-3 to 0533981371]

## 5179030-3
designator CN?
CONN PLUG 80POS FH .8MM BRD-BRD; Manufacturer: TE Connectivity AMP Connectors; N of Positions: 80; Pitch: 0.8mm; Mount Type: SMD; Supplier 1: Newark; Supplier Part Number 1: 73K1639; Supplier 2: Farnell; Supplier Part Number 2: 1283073; Supplier 3: Arrow; Supplier Part Number 3: 5179030-3; Supplier 4: Mouser; Supplier Part Number 4: 571-5179030-3; Supplier 5: Digikey; Supplier Part Number 5: A115334-ND; Value: 5179030-3
footprint B2B PLUG 2X40 0.8mm 180 GRAUS
pins: 1, 2, 3, 4, 5, 6, 7, 8, 9, 10, 11, 12, 13, 14, 15, 16, 17, 18, 19, 20, 21, 22, 23, 24, 25, 26, 27, 28, 29, 30, 31, 32, 33, 34, 35, 36, 37, 38, 39, 40, 41, 42, 43, 44, 45, 46, 47, 48, 49, 50, 51, 52, 53, 54, 55, 56, 57, 58, 59, 60, 61, 62, 63, 64, 65, 66, 67, 68, 69, 70, 71, 72, 73, 74, 75, 76, 77, 78, 79, 80

## 5747150-7
designator CN?
CONN D-SUB RECPT STR 9POS PCB AU; Manufacturer: TE Connectivity; N of Positions: 9; Pitch: -; Mount Type: PTH; Supplier 1: Digi-Key; Supplier 2: Mouser; Supplier 3: Newark; Supplier 4: Farnell; Supplier Part Number 1: A34073-ND; Supplier Part Number 2: 571-5747150-7; Supplier Part Number 3: 42K7435; Supplier Part Number 4: 2401250; Value: 5747150-7
footprint DB9 VERT PTH
pins: 1, 2, 3, 4, 5, 6, 7, 8, 9

## 10118194-0001LF
designator CN?
CONN USB MICRO B RECPT SMT R/A; Manufacturer: FCI; N of Positions: 5; Pitch: 0.65mm; Mount Type: PTH; Supplier 1: Digi-Key; Supplier 2: Farnell; Supplier 3: Mouser; Supplier 4: Newark; Supplier Part Number 1: 609-4618-1-ND; Supplier Part Number 2: 1645325; Supplier Part Number 3: 649-10118194-0001LF; Supplier Part Number 4: 67T2260; Value: 10118194-0001LF
footprint MICRO USB B 90GRAUS
pins: 0, 1, 2, 3, 4, 5

## 10127721-041LF
designator CN?
4 Positions Plug Connector 0.118" (3.00mm) Through Hole Tin; Manufacturer: Amphenol FCI; N of Positions: 4; Pitch: 3mm; Mount Type: PTH; Supplier 1: Digi-Key; Supplier Part Number 1: 609-4859-ND; Supplier 2: Newark; Supplier Part Number 2: 80X2628; Supplier 3: Farnell; Supplier Part Number 3: 2463286; Value: 10127721-041LF
footprint MICROFIT 2x2M 3.0MM 180GRAUS
pins: 1, 2, 3, 4

## 10127721-061LF
designator CN?
6 Positions Plug Connector 0.118" (3.00mm) Through Hole Tin; Manufacturer: Amphenol FCI; N of Positions: 6; Pitch: 3mm; Mount Type: PTH; Supplier 1: Digi-Key; Supplier Part Number 1: 609-4860-ND; Supplier 2: Newark; Supplier Part Number 2: 80X2630; Supplier 3: Farnell; Supplier Part Number 3: 2463287; Value: 10127721-061LF
footprint MICROFIT 2x3M 3.0MM 180GRAUS
pins: 1, 2, 3, 4, 5, 6

## 10127721-082LF
designator CN?
8 Positions Plug Connector 0.118" (3.00mm) Through Hole Tin; Manufacturer: Amphenol FCI; N of Positions: 8; Pitch: 3mm; Mount Type: PTH; Supplier 1: Digi-Key; Supplier Part Number 1: 609-5069-ND; Value: 10127721-082LF
footprint MICROFIT 2x4M 3.0MM 180GRAUS
pins: 1, 2, 3, 4, 5, 6, 7, 8

## 20020106-H021A01LF
designator CN?
TERM BLOCK HDR 2POS VERT 5.08MM; Manufacturer: FCI; N of Positions: 2; Pitch: 5.08mm; Mount Type: PTH; Supplier 1: Mouser; Supplier Part Number 1: 649-2020106H021A01LF; Supplier 2: Farnell; Supplier Part Number 2: 3882032; Supplier 3: Digi-Key; Supplier Part Number 3: 609-4275-ND; Supplier 4: Newark; Supplier Part Number 4: 99R4098; Value: 20020106-H021A01LF
footprint TBLOCK 2x5.08 PIN
pins: 1, 2

## 20020106-H031A01LF
designator CN?
TERM BLOCK HDR 3POS VERT 5.08MM; Manufacturer: FCI; N of Positions: 3; Pitch: 5.08mm; Mount Type: PTH; Supplier 1: Farnell; Supplier Part Number 1: 3882160; Supplier 2: Mouser; Supplier Part Number 2: 649-2020106H031A01LF; Supplier 3: Newark; Supplier Part Number 3: 99R4099; Supplier 4: Digi-Key; Supplier Part Number 4: 609-4276-ND; Value: 20020106-H031A01LF
footprint TBLOCK 3x5.08 PIN
pins: 1, 2, 3

## 20021111-00010T4LF
designator CN?
CONN HEADER 10POS UNSHD VERT T/H; Manufacturer: FCI; N of Positions: 10; Pitch: 1.27mm; Mount Type: PTH; Supplier 1: Digi-Key; Supplier 2: Newark; Supplier 3: Mouser; Supplier 4: Farnell; Supplier Part Number 1: 609-3712-ND; Supplier Part Number 2: 82R7568; Supplier Part Number 3: 649-221111-00010T4LF; Supplier Part Number 4: 1865285; Value: 20021111-00010T4LF
footprint HEADER 2X5 1.27mm 180 GRAUS
pins: 1, 2, 3, 4, 5, 6, 7, 8, 9, 10

## 20021121-00004C4LF
designator CN?
CONN HEADER 4POS DL UNSHRD SMD; Manufacturer: FCI; N of Positions: 4; Pitch: 1.27mm; Mount Type: SMD; Supplier 1: Farnell; Supplier 2: Mouser; Supplier 3: Newark; Supplier 4: Digi-Key; Supplier Part Number 1: 1865276; Supplier Part Number 2: 649-202112100004C4LF; Supplier Part Number 3: 58R3185; Supplier Part Number 4: 609-3692-1-ND; Value: 20021121-00004C4LF
footprint SMD HEADER 2x2M 1.27MM
pins: 1, 2, 3, 4

## 20021121-00012C4LF
designator CN?
CONN HEADER 12POS DL UNSHRD SMD; Manufacturer: FCI; N of Positions: 12; Pitch: 1.27; Mount Type: SMD; Supplier 1: Farnell; Supplier 2: Newark; Supplier 3: Allied; Supplier 4: Mouser; Supplier 5: Digi-Key; Supplier Part Number 1: 1865280; Supplier Part Number 2: 58R3189; Supplier Part Number 3: R1109872; Supplier Part Number 4: 649-202112100012C4LF; Supplier Part Number 5: 609-3696-1-ND; Value: 20021121-00012C4LF
footprint SMD HEADER 2x6M 1.27MM
pins: 1, 2, 3, 4, 5, 6, 7, 8, 9, 10, 11, 12

## 0430452028
designator CN?
MICROFIT 3.0 VERT TH HDR DR 15AU 0430452028; Manufacturer: Molex, LLC; N of Positions: 20; Pitch: 0.118" (3.00mm); Mount Type: Through Hole; Supplier 1: Digi-Key; Supplier Part Number 1: WM10733-ND; Value: 0430452028
footprint MICROFIT 2x10M 3.0MM 180GRAUS
pins: 1, 2, 3, 4, 5, 6, 7, 8, 9, 10, 11, 12, 13, 14, 15, 16, 17, 18, 19, 20

## 0430452228
designator CN?
MICROFIT 3.0 VERT TH HDR DR 15AU 0430452228; Manufacturer: Molex, LLC; N of Positions: 22; Pitch: 0.118" (3.00mm); Mount Type: Through Hole; Supplier 1: Digi-Key; Supplier Part Number 1: WM10740-ND; Value: 0430452228
footprint MICROFIT 2x11M 3.0MM 180GRAUS
pins: 1, 2, 3, 4, 5, 6, 7, 8, 9, 10, 11, 12, 13, 14, 15, 16, 17, 18, 19, 20, 21, 22

## 0430452428
designator CN?  (value not drawn)
MICROFIT 3.0 VERT TH HDR DR 15AU; Manufacturer: Molex, LLC; N of Positions: 24; Pitch: 0.118" (3.00mm); Mount Type: Through Hole; Supplier 1: Digi-Key; Supplier Part Number 1: WM10746-ND; Value: *
footprint MICROFIT 2x12M 3.0MM 180GRAUS
pins: 1, 2, 3, 4, 5, 6, 7, 8, 9, 10, 11, 12, 13, 14, 15, 16, 17, 18, 19, 20, 21, 22, 23, 24

## 0532610271
designator CN?
CONN HEADER SMD R/A 2POS 1.25MM; Manufacturer: Molex; N of Positions: 2; Pitch: 1.25mm; Mount Type: SMD; Value: 0532610271
footprint PICO BLADE 0532610271
pins: 1, 2

## 0532610371
designator CN?
CONN HEADER SMD R/A 3POS 1.25MM; Manufacturer: Molex; N of Positions: 3; Pitch: 1.25mm; Mount Type: SMD; Value: 0532610371
footprint PICO BLADE 0532610371
pins: 1, 2, 3

## 0532610471
designator CN?
CONN HEADER SMD R/A 4POS 1.25MM; Manufacturer: Molex; N of Positions: 4; Pitch: 1.25mm; Mount Type: SMD; Value: 0532610471
footprint PICO BLADE 0532610471
pins: 1, 2, 3, 4

## 0532610571
designator CN?
CONN HEADER SMD R/A 5POS 1.25MM; Manufacturer: Molex; N of Positions: 5; Pitch: 1.25mm; Mount Type: SMD; Value: 0532610571
footprint PICO BLADE 0532610571
pins: 1, 2, 3, 4, 5

## 0532610671
designator CN?
CONN HEADER SMD R/A 6POS 1.25MM; Manufacturer: Molex; N of Positions: 6; Pitch: 1.25mm; Mount Type: SMD; Value: 0532610671
footprint PICO BLADE 0532610671
pins: 1, 2, 3, 4, 5, 6

## 0532610771
designator CN?
CONN HEADER SMD R/A 7POS 1.25MM; Manufacturer: Molex; N of Positions: 7; Pitch: 1.25mm; Mount Type: SMD; Value: 0532610771
footprint PICO BLADE 0532610771
pins: 1, 2, 3, 4, 5, 6, 7

## 0532610871
designator CN?
CONN HEADER SMD R/A 8POS 1.25MM; Manufacturer: Molex; N of Positions: 8; Pitch: 1.25mm; Mount Type: SMD; Value: 0532610871
footprint PICO BLADE 0532610871
pins: 1, 2, 3, 4, 5, 6, 7, 8

## 0532610971
designator CN?
CONN HEADER SMD R/A 9POS 1.25MM; Manufacturer: Molex; N of Positions: 9; Pitch: 1.25mm; Mount Type: SMD; Value: 0532610971
footprint PICO BLADE 0532610971
pins: 1, 2, 3, 4, 5, 6, 7, 8, 9

## 0532611071
designator CN?
CONN HEADER SMD R/A 10POS 1.25MM; Manufacturer: Molex; N of Positions: 10; Pitch: 1.25mm; Mount Type: SMD; Value: 0532611071
footprint PICO BLADE 0532611071
pins: 1, 2, 3, 4, 5, 6, 7, 8, 9, 10

## 0532611171
designator CN?
CONN HEADER SMD R/A 11POS 1.25MM; Manufacturer: Molex; N of Positions: 11; Pitch: 1.25mm; Mount Type: SMD; Value: 0532611171
footprint PICO BLADE 0532611171
pins: 1, 2, 3, 4, 5, 6, 7, 8, 9, 10, 11

## 0532611271
designator CN?
CONN HEADER SMD R/A 12POS 1.25MM; Manufacturer: Molex; N of Positions: 12; Pitch: 1.25mm; Mount Type: SMD; Value: 0532611271
footprint PICO BLADE 0532611271
pins: 1, 2, 3, 4, 5, 6, 7, 8, 9, 10, 11, 12

## 0532611371
designator CN?
CONN HEADER SMD R/A 13POS 1.25MM; Manufacturer: Molex; N of Positions: 13; Pitch: 1.25mm; Mount Type: SMD; Value: 0532611371
footprint PICO BLADE 0532611371
pins: 1, 2, 3, 4, 5, 6, 7, 8, 9, 10, 11, 12, 13

## 0532611471
designator CN?
CONN HEADER SMD R/A 14POS 1.25MM; Manufacturer: Molex; N of Positions: 14; Pitch: 1.25mm; Mount Type: SMD; Value: 0532611471
footprint PICO BLADE 0532611471
pins: 1, 2, 3, 4, 5, 6, 7, 8, 9, 10, 11, 12, 13, 14

## 0532611571
designator CN?
CONN HEADER SMD R/A 15POS 1.25MM; Manufacturer: Molex; N of Positions: 15; Pitch: 1.25mm; Mount Type: SMD; Value: 0532611571
footprint PICO BLADE 0532611571
pins: 1, 2, 3, 4, 5, 6, 7, 8, 9, 10, 11, 12, 13, 14, 15

## 0533980271
designator CN?
CONN HEADER SMD 2POS 1.25MM; Manufacturer: Molex; N of Positions: 2; Pitch: 1.25mm; Mount Type: SMD; Value: 0533980271
footprint PICO BLADE 0533980271
pins: 1, 2

## 0533980371
designator CN?
CONN HEADER SMD 3POS 1.25MM; Manufacturer: Molex; N of Positions: 3; Pitch: 1.25mm; Mount Type: SMD; Value: 0533980371
footprint PICO BLADE 0533980371
pins: 1, 2, 3

## 0533980471
designator CN?
CONN HEADER SMD 4POS 1.25MM; Manufacturer: Molex; N of Positions: 4; Pitch: 1.25mm; Mount Type: SMD; Value: 0533980471
footprint PICO BLADE 0533980471
pins: 1, 2, 3, 4

## 0533980571
designator CN?
CONN HEADER SMD 5POS 1.25MM; Manufacturer: Molex; N of Positions: 5; Pitch: 1.25mm; Mount Type: SMD; Value: 0533980571
footprint PICO BLADE 0533980571
pins: 1, 2, 3, 4, 5

## 0533980671
designator CN?
CONN HEADER SMD 6POS 1.25MM; Manufacturer: Molex; N of Positions: 6; Pitch: 1.25mm; Mount Type: SMD; Value: 0533980671
footprint PICO BLADE 0533980671
pins: 1, 2, 3, 4, 5, 6

## 0533980771
designator CN?
CONN HEADER SMD 7POS 1.25MM; Manufacturer: Molex; N of Positions: 7; Pitch: 1.25mm; Mount Type: SMD; Value: 0533980771
footprint PICO BLADE 0533980771
pins: 1, 2, 3, 4, 5, 6, 7

## 0533980871
designator CN?
CONN HEADER SMD 8POS 1.25MM; Manufacturer: Molex; N of Positions: 8; Pitch: 1.25mm; Mount Type: SMD; Value: 0533980871
footprint PICO BLADE 0533980871
pins: 1, 2, 3, 4, 5, 6, 7, 8

## 0533980971
designator CN?
CONN HEADER SMD 9POS 1.25MM; Manufacturer: Molex; N of Positions: 9; Pitch: 1.25mm; Mount Type: SMD; Value: 0533980971
footprint PICO BLADE 0533980971
pins: 1, 2, 3, 4, 5, 6, 7, 8, 9

## 0533981071
designator CN?
CONN HEADER SMD 10POS 1.25MM; Manufacturer: Molex; N of Positions: 10; Pitch: 1.25mm; Mount Type: SMD; Value: 0533981071
footprint PICO BLADE 0533981071
pins: 1, 2, 3, 4, 5, 6, 7, 8, 9, 10

## 0533981171
designator CN?
CONN HEADER SMD 11POS 1.25MM; Manufacturer: Molex; N of Positions: 11; Pitch: 1.25mm; Mount Type: SMD; Value: 0533981171
footprint PICO BLADE 0533981171
pins: 1, 2, 3, 4, 5, 6, 7, 8, 9, 10, 11

## 0533981271
designator CN?
CONN HEADER SMD 12POS 1.25MM; Manufacturer: Molex; N of Positions: 12; Pitch: 1.25mm; Mount Type: SMD; Value: 0533981271
footprint PICO BLADE 0533981271
pins: 1, 2, 3, 4, 5, 6, 7, 8, 9, 10, 11, 12

## 0533981371
designator CN?
CONN HEADER SMD 13POS 1.25MM; Manufacturer: Molex; N of Positions: 13; Pitch: 1.25mm; Mount Type: SMD; Value: 0533981371
footprint PICO BLADE 0533981371
pins: 1, 2, 3, 4, 5, 6, 7, 8, 9, 10, 11, 12, 13

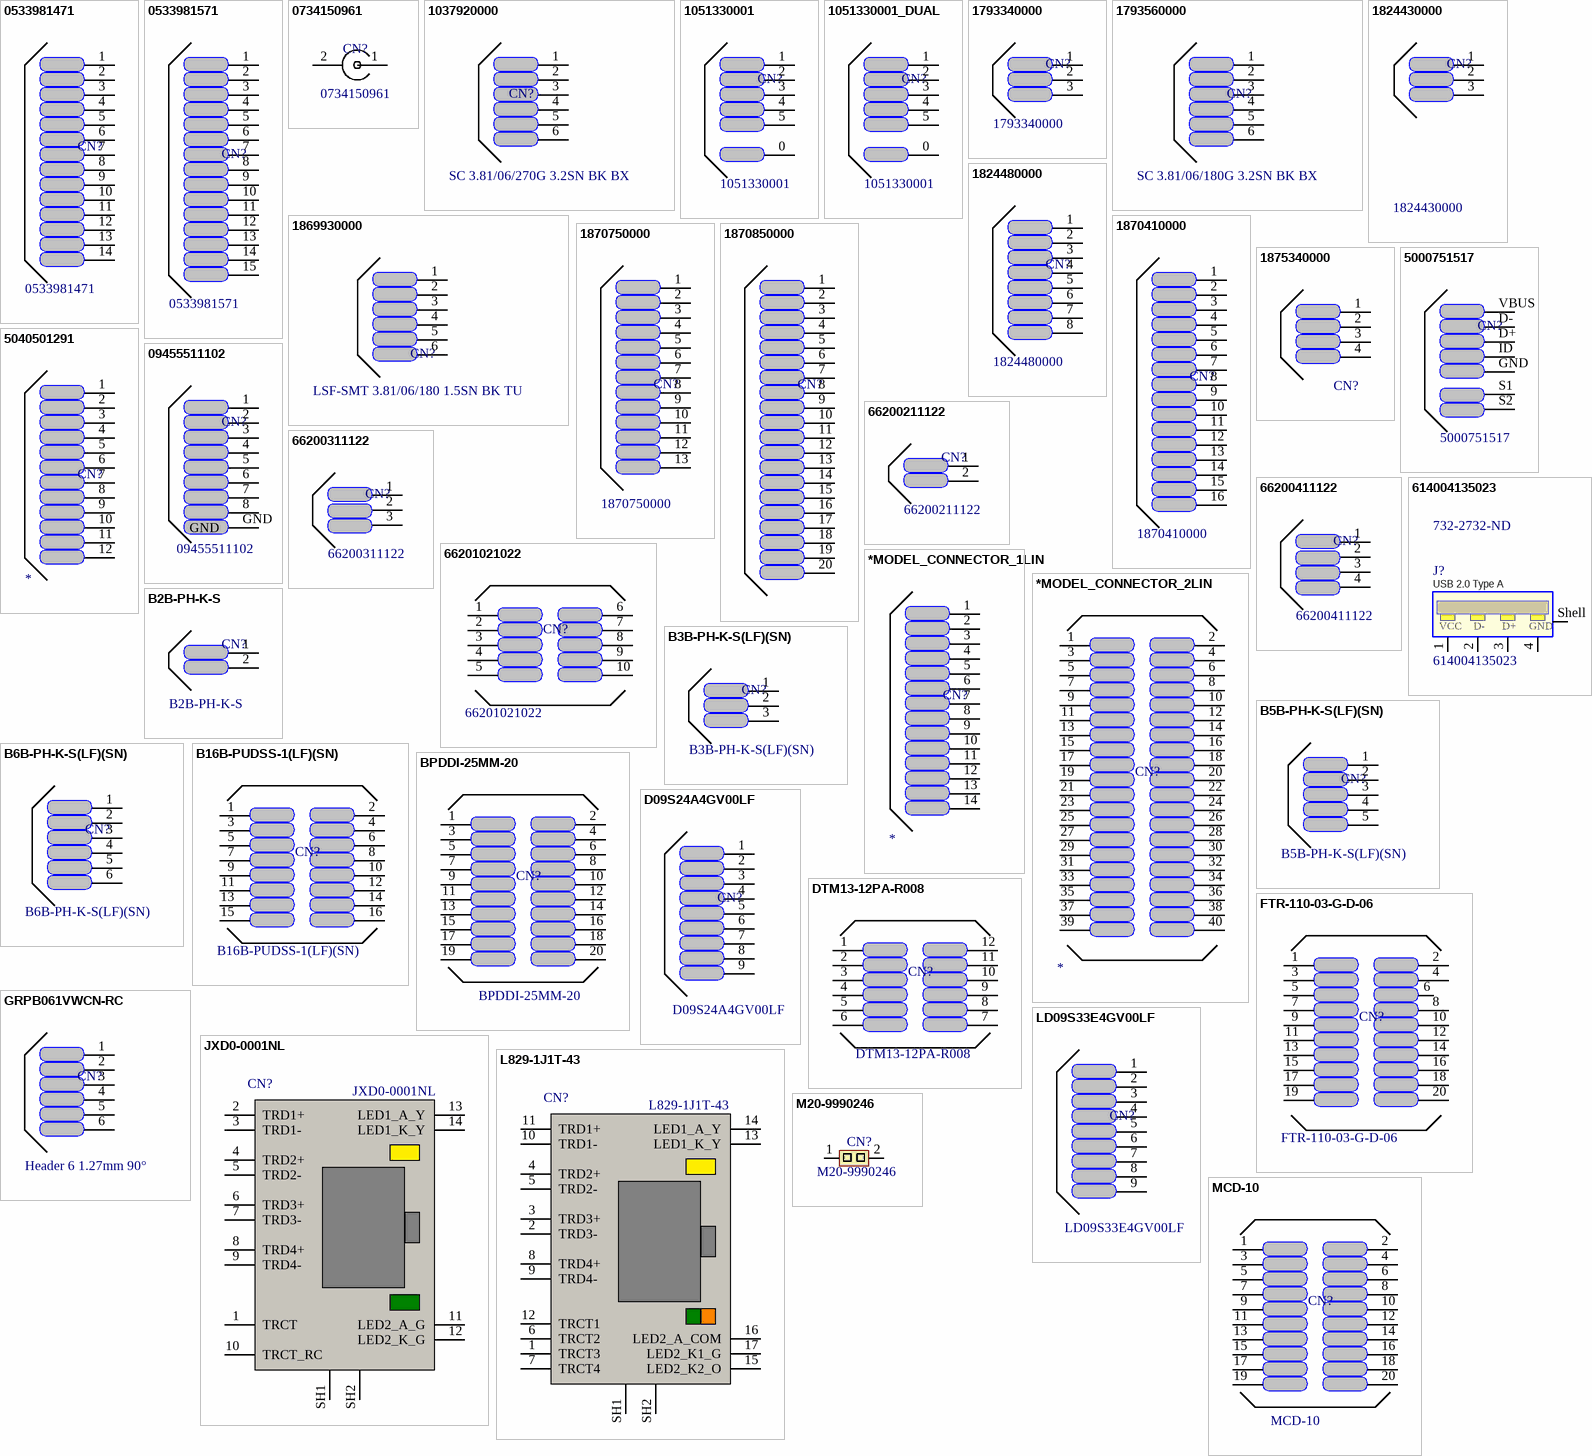
[diagram p3: symbols 0533981471 to MCD-10]

## 0533981471
designator CN?
CONN HEADER SMD 14POS 1.25MM; Manufacturer: Molex; N of Positions: 14; Pitch: 1.25mm; Mount Type: SMD; Value: 0533981471
footprint PICO BLADE 0533981471
pins: 1, 2, 3, 4, 5, 6, 7, 8, 9, 10, 11, 12, 13, 14

## 0533981571
designator CN?
CONN HEADER SMD 15POS 1.25MM; Manufacturer: Molex; N of Positions: 15; Pitch: 1.25mm; Mount Type: SMD; Value: 0533981571
footprint PICO BLADE 0533981571
pins: 1, 2, 3, 4, 5, 6, 7, 8, 9, 10, 11, 12, 13, 14, 15

## 0734150961
designator CN?
CONN MMCX JACK 50 OHM EDGE MNT; Manufacturer: Molex; N of Positions: 1; Pitch: *; Mount Type: SMD; Supplier 1: Newark; Supplier 2: Mouser; Supplier 3: Digi-Key; Supplier Part Number 1: 53R2348; Supplier Part Number 2: 538-73415-0961; Supplier Part Number 3: WM5550-ND; Value: 0734150961
footprint MMCX JACK 0734150961
pins: 1, 2

## 1037920000
designator CN?  value SC 3.81/06/270G 3.2SN BK BX  (hidden comment: 1037920000)
TERM BLOCK HDR 6POS 90DEG 3.81mm; Manufacturer: Weidmuller; N of Positions: 6; Pitch: 3.81mm; Mount Type: PTH; Supplier 1: Digi-Key; Supplier Part Number 1: 1037920000-ND; Manufacturer Part Number 1: 1037920000
footprint 1037920000 (TERM BLOCK HDR 6POS 90DEG 3.81MM)
pins: 1, 2, 3, 4, 5, 6

## 1051330001
designator CN?
MICRO USB B REC. VERTICAL TYPE; Manufacturer: Molex; N of Positions: 5; Pitch: 0.65mm; Mount Type: PTH; Supplier 1: Mouser; Supplier 2: Digi-Key; Supplier Part Number 1: 538-105133-0001; Supplier Part Number 2: WM9734CT-ND; Value: 1051330001
footprint MICRO USB B 180GRAUS
pins: 0, 1, 2, 3, 4, 5

## 1051330001_DUAL
designator CN?  value 1051330001  (hidden comment: 1051330001_DUAL)
MICRO USB B REC. VERTICAL TYPE; Manufacturer: Molex; N of Positions: 5; Pitch: 0.65mm; Mount Type: PTH; Supplier 1: Mouser; Supplier 2: Digi-Key; Supplier Part Number 1: 538-105133-0001; Supplier Part Number 2: WM9734CT-ND
footprint MICRO USB B DUAL FOOTPRINT (Micro USB 90 ou 180 graus)
pins: 0, 1, 2, 3, 4, 5

## 1793340000
designator CN?
TERM BLOCK HDR 3POS 90DEG 3.81MM; Manufacturer: Weidmuller; N of Positions: 3; Pitch: 3.81mm; Mount Type: PTH; Supplier 1: Farnell; Supplier Part Number 1: 2077133; Supplier 2: Digi-Key; Supplier Part Number 2: 1793340000-ND; Value: 1793340000
footprint SC 3.81/03/90F
pins: 1, 2, 3

## 1793560000
designator CN?  value SC 3.81/06/180G 3.2SN BK BX  (hidden comment: 1793560000)
PCB plug-in connector, male header, closed side, THT solder connection, 3.81 mm, No. of poles: 6, 180°, Solder pin length (l): 3.2 mm, tinned, Black, Box; Supplier 1: Digi-Key; Supplier Part Number 1: 1793560000-ND
footprint 1793560000 (PCB plug-in connector, male header, closed side, THT solder connection, 3.81 mm, No. of poles: 6, 180°, Solder pin length (l): 3.2 mm, tinned, Black, Box)
pins: 1, 2, 3, 4, 5, 6

## 1824430000
designator CN?
CONN TERM BLK 3POS 3.5MM R/A PCB; Manufacturer: Weidmuller; N of Positions: 3; Pitch: 3.5mm; Mount Type: PTH; Supplier 1: Digi-Key; Supplier Part Number 1: 281-2021-ND; Supplier 2: Newark; Supplier Part Number 2: 21M0664; Value: 1824430000
footprint 1824430000 (CONN TERM BLK 3POS 3.5MM R/A PCB)
pins: 1, 2, 3

## 1824480000
designator CN?
CONN TERM BLK 8POS 3.5MM R/A PCB; Manufacturer: Weidmuller; N of Positions: 8; Pitch: 3.5mm; Mount Type: PTH; Supplier 1: Newark; Supplier Part Number 1: 21M0669; Supplier 2: Digi-Key; Supplier Part Number 2: 281-2026-ND; Value: 1824480000
footprint 1824480000 (CONN TERM BLK 8POS 3.5MM R/A PCB)
pins: 1, 2, 3, 4, 5, 6, 7, 8

## 1869930000
designator CN?  value LSF-SMT 3.81/06/180 1.5SN BK TU  (hidden comment: 1869930000)
LSF-SMT 3.81/06/180 1.5 BK; Manufacturer: Weidmuller; Pitch: 0.150" (3.81mm); Supplier 1: Digi-Key; Supplier Part Number 1: 1869930000-ND; Mounting Type: Through Hole; Supplier 2: Farnell; Supplier Part Number 2: 1788445
footprint 1869930000 (PCB terminal, 3.81 mm, No. of poles: 6, 180°, Solder pin length (l): 1.5 mm, Black, PUSH IN, Clamping range, rated connection, max.: 1.5 mm², Tube; Rs = 109 - 1012 ?)
pins: 1, 2, 3, 4, 5, 6

## 1870410000
designator CN?
LSF-SMT 3.50/16/90 3.5SN BK; Manufacturer: Weidmuller; N of Positions: 16; Pitch: 3.5mm; Mount Type: PTH; Supplier 1: Digi-Key; Supplier Part Number 1: 1870410000-ND; Supplier 2: Newark; Supplier Part Number 2: 55M1624; Value: 1870410000
footprint 1870410000 (CONN TERM BLK 16POS 3.5MM R/A PCB)
pins: 1, 2, 3, 4, 5, 6, 7, 8, 9, 10, 11, 12, 13, 14, 15, 16

## 1870750000
designator CN?
LSF-SMT 3.50/13/180 1.5 BK; Manufacturer: Weidmuller; N of Positions: 13; Pitch: 3.5mm; Mount Type: PTH; Supplier 1: Digi-Key; Supplier Part Number 1: 1870750000-ND; Value: 1870750000
footprint 1870750000 (CONN TERM BLK 13POS 3.5MM R/A PCB)
pins: 1, 2, 3, 4, 5, 6, 7, 8, 9, 10, 11, 12, 13

## 1870850000
designator CN?  (value not drawn)
LSF-SMT 3.50/16/90 3.5SN BK; Manufacturer: Weidmuller; N of Positions: 16; Pitch: 3.5mm; Value: 1870410000; Mount Type: PTH; Supplier 1: Digi-Key; Supplier Part Number 1: 1870850000-ND
footprint 1870850000 (PCB terminal, 3.81 mm, No. of poles: 14, 180°, Solder pin length (l): 1.5 mm, Black, PUSH IN, Clamping range, rated connection, max.: 1.5 mm², Tube; Rs = 109 - 1012 ?)
pins: 1, 2, 3, 4, 5, 6, 7, 8, 9, 10, 11, 12, 13, 14, 15, 16, 17, 18, 19, 20

## 1875340000
designator CN?  (value not drawn)
LSF-SMT 3.81/04/180 1.5 BK; Manufacturer: Weidmuller; Pitch: 0.150" (3.81mm); Value: LSF-SMT 3.81/06/180 1.5SN BK TU; Mounting Type: Through Hole; Supplier 1: Digi-Key; Supplier Part Number 1: 1875340000-ND
footprint 1875340000 (PCB terminal, 3.81 mm, No. of poles: 4, 180°, Solder pin length (l): 1.5 mm, Black, PUSH IN, Clamping range, rated connection, max.: 1.5 mm², Tube; Rs = 109 - 1012 ?)
pins: 1, 2, 3, 4

## 5000751517
designator CN?
CONN RECEPT USB 5POS VERT PCB; Manufacturer: Molex Inc; N of Positions: 5; Pitch: -; Mount Type: PTH; Supplier 1: Farnell; Supplier 2: Newark; Supplier 3: Digi-Key; Supplier 4: Mouser; Supplier Part Number 1: 1125349; Supplier Part Number 2: 54K3909; Supplier Part Number 3: WM2072-ND; Supplier Part Number 4: 538-500075-1517; Value: 5000751517
footprint MINI USB B 180GRAUS
pins: D+, D-, GND, ID, S1, S2, VBUS

## 5040501291
designator CN?  (value not drawn)
15 WB HEADER ASS'Y EMBTP PKG 12P; Manufacturer: Molex, LLC; N of Positions: 12; Pitch: 0.059" (1.50mm); Mount Type: SMD; Supplier 1: Newark; Supplier Part Number 1: 99Y4903; Supplier 2: Mouser; Supplier Part Number 2: Anonymous Daily Limit Reached; Supplier 3: Digi-Key; Supplier Part Number 3: WM16219CT-ND; Supplier 4: Farnell; Supplier Part Number 4: 2614894; Value: *
footprint 5040501291
pins: 1, 2, 3, 4, 5, 6, 7, 8, 9, 10, 11, 12

## 09455511102
designator CN?
RJ45 CONN MOD JACK 8P8C R/A SHIELDED; Manufacturer: Harting; N of Positions: 8; Pitch: 2.54mm; Mount Type: PTH; Supplier 1: Digi-Key; Supplier 2: Digi-Key; Supplier Part Number 2: 1195-2207-ND; Value: 09455511102
footprint RJ45 CONN MOD JACK 8P8C R/A SHIELDED (Jack Modular Connector 8p8c (RJ45, Ethernet) 90° Angle (Right) Shielded Cat5)
pins: 1, 2, 3, 4, 5, 6, 7, 8, GND

## 66200211122
designator CN?
MICROFIT 3.0 SR VERT TH PEG TIN; Manufacturer: Wurth Electronics Inc; N of Positions: 2; Pitch: 3mm; Mount Type: PTH; Supplier 1: Farnell; Supplier Part Number 1: 2113504; Supplier 2: Digi-Key; Supplier Part Number 2: 732-4706-5-ND; Supplier 3: Newark; Supplier Part Number 3: 96T8074; Value: 66200211122
footprint MICROFIT 2M 3.0MM 180GRAUS
pins: 1, 2

## 66200311122
designator CN?
CONN HEADER 3POS VERT TIN; Manufacturer: Wurth Electronics Inc; N of Positions: 3; Pitch: 3mm; Mount Type: PTH; Supplier 1: Digi-Key; Supplier Part Number 1: 732-4709-5-ND; Supplier 2: Newark; Supplier Part Number 2: 96T8081; Supplier 3: Farnell; Supplier Part Number 3: 2113505; Value: 66200311122
footprint MICROFIT 3M 3.0MM 180GRAUS
pins: 1, 2, 3

## 66200411122
designator CN?
CONN HEADER 4POS 3MM VERT TIN; Manufacturer: Wurth Electronics Inc; N of Positions: 4; Pitch: 3mm; Mount Type: PTH; Supplier 1: Digi-Key; Supplier Part Number 1: 732-4710-5-ND; Supplier 2: Newark; Supplier Part Number 2: 96T8083; Supplier 3: Farnell; Supplier Part Number 3: 2113506; Value: 66200411122
footprint MICROFIT 4M 3.0MM 180GRAUS
pins: 1, 2, 3, 4

## 66201021022
designator CN?
WR-MPC3 POWER CONNECTOR 10POS; Manufacturer: Wurth Electronics Inc.; N of Positions: 10; Pitch: 3mm; Mount Type: PTH; Supplier 1: Newark; Supplier Part Number 1: 19P1327; Supplier 2: Digi-Key; Supplier Part Number 2: 732-4722-5-ND; Supplier 3: Mouser; Supplier Part Number 3: 710-66201021022; Supplier 4: Farnell; Supplier Part Number 4: 1641825; Value: 66201021022
footprint MICROFIT 2x5M 3.0MM 90GRAUS
pins: 1, 2, 3, 4, 5, 6, 7, 8, 9, 10

## 614004135023
designator J?  Supplier Part Number 4: 732-2732-ND
CONN USB 4PINS TYPE A VERT; Manufacturer: Wurth Electronics Inc.; Published: June 2016; Publisher: Wurth Elektronik; ComponentLink1URL: http://www.we-online.de; ComponentLink2Description: Datasheet; ComponentLink2URL: http://katalog.we-online.de/em/datasheet/614004135023.pdf; PartNumber: 614004135023; Supplier 1: Digikey; Supplier Part Number 1: 732-2732-ND; Supplier 2: Newark; Supplier 3: Farnell; Supplier 4: Digi-Key; Supplier 5: Digi-Key; Supplier Part Number 2: 16T0646; Supplier Part Number 3: 1841168; Supplier Part Number 5: 732-8245-ND
footprint 614004135023 (4 pins)
pins: 1 VCC, 2 D-, 3 D+, 4 GND, Shell
text: USB 2.0 Type A

## *MODEL_CONNECTOR_1LIN
designator CN?, comment Part Number  (value not drawn)
Description; N of Positions: *; Pitch: *; Mount Type: *; Manufacturer: *; Value: *
pins: 1, 2, 3, 4, 5, 6, 7, 8, 9, 10, 11, 12, 13, 14

## *MODEL_CONNECTOR_2LIN
designator CN?, comment Part Number  (value not drawn)
Description; N of Positions: *; Pitch: *; Mount Type: *; Manufacturer: *; Value: *
pins: 1, 2, 3, 4, 5, 6, 7, 8, 9, 10, 11, 12, 13, 14, 15, 16, 17, 18, 19, 20, 21, 22, 23, 24, 25, 26, 27, 28, 29, 30, 31, 32, 33, 34, 35, 36, 37, 38, 39, 40

## B2B-PH-K-S
designator CN?
CONN HEADER PH TOP 2POS 2MM; Manufacturer: JST Sales America Inc; N of Positions: 2; Pitch: 2mm; Mount Type: PTH; Supplier 1: Digi-Key; Supplier 2: Farnell; Supplier 3: Mouser; Supplier 4: Newark; Supplier Part Number 1: 455-1704-ND; Supplier Part Number 2: 9491856; Supplier Part Number 3: N/A; Supplier Part Number 4: 37K9940; Value: B2B-PH-K-S
footprint HEADER PH TOP 2POS 2MM
pins: 1, 2

## B3B-PH-K-S(LF)(SN)
designator CN?
CONN HEADER PH TOP 3POS 2MM; Manufacturer: JST Sales America Inc; N of Positions: 3; Pitch: 2mm; Mount Type: PTH; Supplier 1: Digi-Key; Supplier Part Number 1: 455-1705-ND; Value: B3B-PH-K-S(LF)(SN)
footprint HEADER PH TOP 3POS 2MM
pins: 1, 2, 3

## B5B-PH-K-S(LF)(SN)
designator CN?
CONN HEADER PH TOP 6POS 2MM; Manufacturer: JST Sales America Inc; N of Positions: 5; Pitch: 2mm; Mount Type: PTH; Supplier 1: Digikey; Supplier 2: Newark; Supplier 3: Farnell; Supplier Part Number 1: 455-1707-ND; Supplier Part Number 2: 37K9966; Supplier Part Number 3: 9492445; Value: B5B-PH-K-S(LF)(SN)
footprint HEADER PH TOP 5POS 2MM
pins: 1, 2, 3, 4, 5

## B6B-PH-K-S(LF)(SN)
designator CN?
CONN HEADER PH TOP 6POS 2MM; Manufacturer: JST Sales America Inc; N of Positions: 6; Pitch: 2mm; Mount Type: PTH; Supplier 1: Digi-Key; Supplier 2: Farnell; Supplier 3: Newark; Supplier Part Number 1: 455-1708-ND; Supplier Part Number 2: 9492453; Supplier Part Number 3: 37K9974; Value: B6B-PH-K-S(LF)(SN)
footprint HEADER PH TOP 6POS 2MM (HEADER PH TOP 3POS 2MM)
pins: 1, 2, 3, 4, 5, 6

## B16B-PUDSS-1(LF)(SN)
designator CN?
CONN HDR TOP 16 POS W/BOSS 2MM; Manufacturer: JST Sales America Inc; N of Positions: 16; Pitch: 2mm; Mount Type: PTH; Supplier 1: Farnell; Supplier 2: Mouser; Supplier 3: Newark; Supplier 4: Digi-Key; Supplier Part Number 1: 2399154; Supplier Part Number 2: N/A; Supplier Part Number 3: 53X3086; Supplier Part Number 4: 455-2503-ND; Value: B16B-PUDSS-1(LF)(SN)
footprint HEADER 2X8 2mm 180 GRAUS
pins: 1, 2, 3, 4, 5, 6, 7, 8, 9, 10, 11, 12, 13, 14, 15, 16